# Altium footprint library BGA4C40P2X2_78X78X50.PcbLib: 1 footprints
Each footprint in its own frame and in the unit in brackets; x right, y up, seen from the top. Pads: shape width x height; smd on the part's side, far side on the other; paste and mask are expansions set on the pad; w line width, h text height; cw(c..) or ccw(c..) is an arc to the next point about the centre after c.
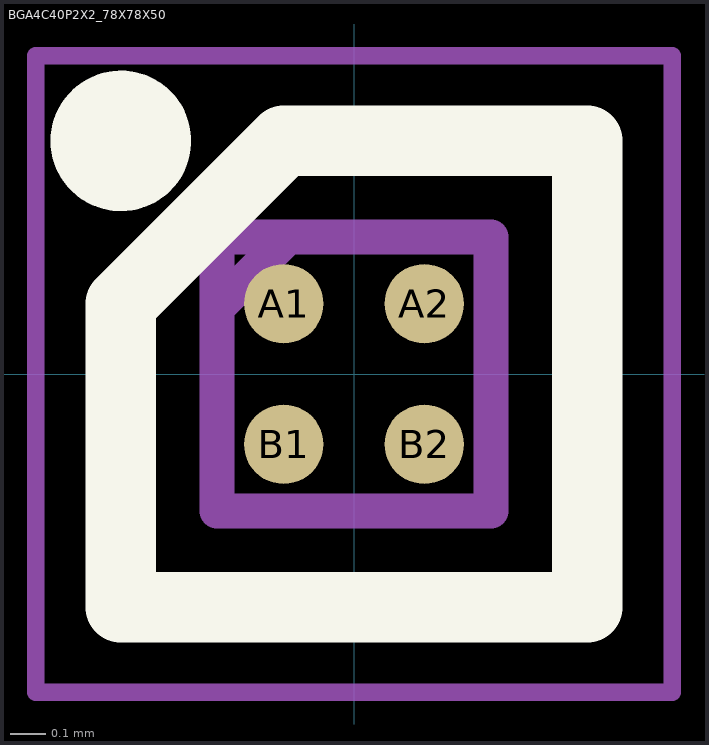
[diagram p0: the footprint, top view; thin cyan lines are the x and y axes]

## BGA4C40P2X2_78X78X50 [mm]
pads (4):
  round 0.226 smd: A1(-0.2,0.2) A2(0.2,0.2) B1(-0.2,-0.2) B2(0.2,-0.2)
Top Overlay:
  circle w0.2: c-0.663,0.663 r0.1
  lines w0.2: -0.663,-0.663 0.663,-0.663 0.663,0.663 -0.2,0.663 -0.663,0.2 -0.663,-0.663
Mechanical 15:
  lines w0.1: -0.39,0.188 -0.188,0.39 ; -0.39,-0.39 0.39,-0.39 0.39,0.39 -0.39,0.39 -0.39,-0.39
Mechanical 20:
  lines w0.05: -0.905,-0.905 0.905,-0.905 0.905,0.905 -0.905,0.905 -0.905,-0.905